# EAGLE library part BUK9Y25-60E_A004X (library BUK9Y25-60E_A004X)
N-channel 60 V, 25 m, 175 C logic level MOSFET in LFPAK56 Source: Datasheet <https://assets.nexperia.com/documents/data-sheet/BUK9Y25-60E.pdf>
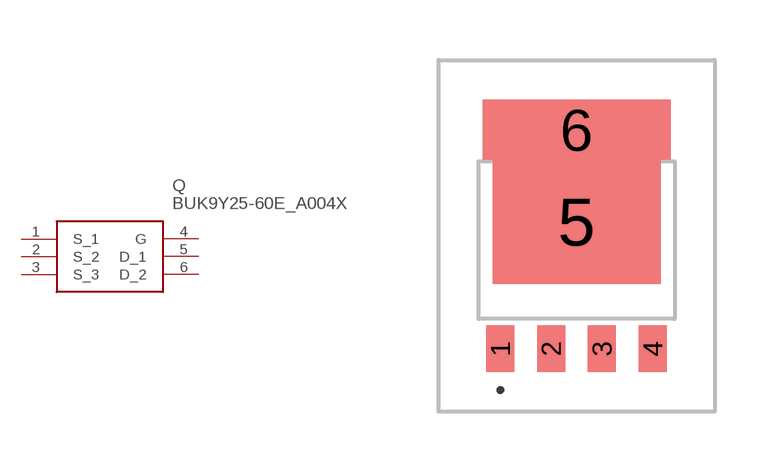
[diagram p0: symbol with the pads of BUK9Y2560EA004X; footprint BUK9Y2560EA004X]

Designator prefix Q

## BUK9Y25-60E_A004X (Description: N-channel 60 V, 25 m, 175 C logic level MOSFET in LFPAK56; Height: 1.2mm; Manufacturer_Name: Nexperia; Manufacturer_Part_Number: BUK9Y25-60E/A004X)  [BUK9Y2560EA004X]
1  S_1
2  S_2
3  S_3
4  G
5  D_1
6  D_2

## Footprint BUK9Y2560EA004X (pad centres in mm)
BUK9Y25-60E/A004X
smd 0.7 x 1.15: 1 -1.905,-2.713; 2 -0.635,-2.713; 3 0.635,-2.713; 4 1.905,-2.713
smd 4.2 x 3.1: 5 0,0.462
smd 4.7 x 1.5: 6 0,2.762